# Altium footprint library Devices_other.PcbLib: 1 footprints
Each footprint in its own frame and in the unit in brackets; x right, y up, seen from the top. Pads: shape width x height; smd on the part's side, far side on the other; paste and mask are expansions set on the pad; w line width, h text height; cw(c..) or ccw(c..) is an arc to the next point about the centre after c.
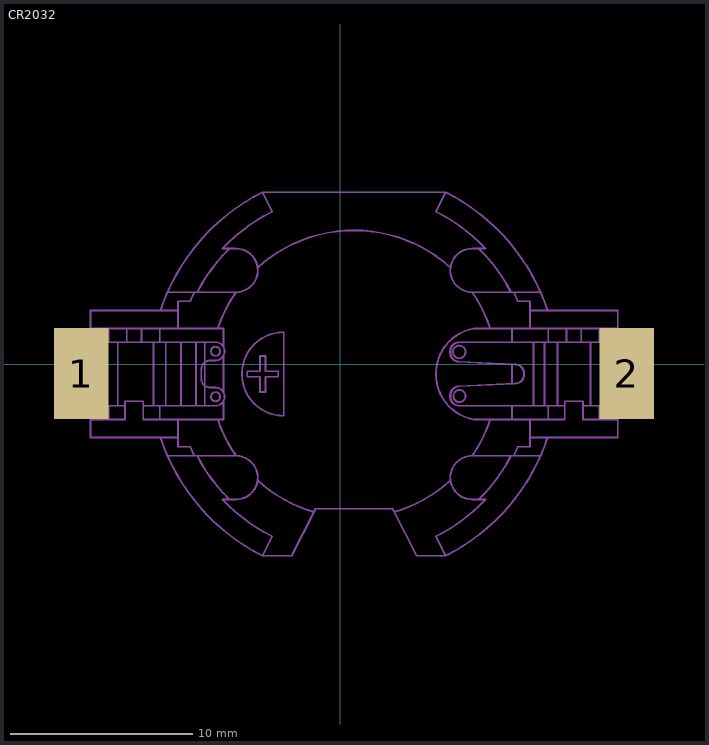
[diagram p0: the footprint, top view; thin cyan lines are the x and y axes]

## CR2032 [mm]
pads (2):
  rect 3x5 smd: 1(-14.25,-0.5) 2(15.75,-0.5)
Mechanical 13:
  drawing of 248 lines, arcs and shapes, not listed
3D body "User Library-BU2032SM-HD-G(CR2032 Battery Holder).step": height 5.38, standoff 0.08, extent -15.247,-10.504 16.753,9.496
3D body: height 0.25, standoff -59.23, extent 0.5,-0.152 0.5,-0.152